# EAGLE library part UC_ATSAMD11D14A-SSUT (library fab2)
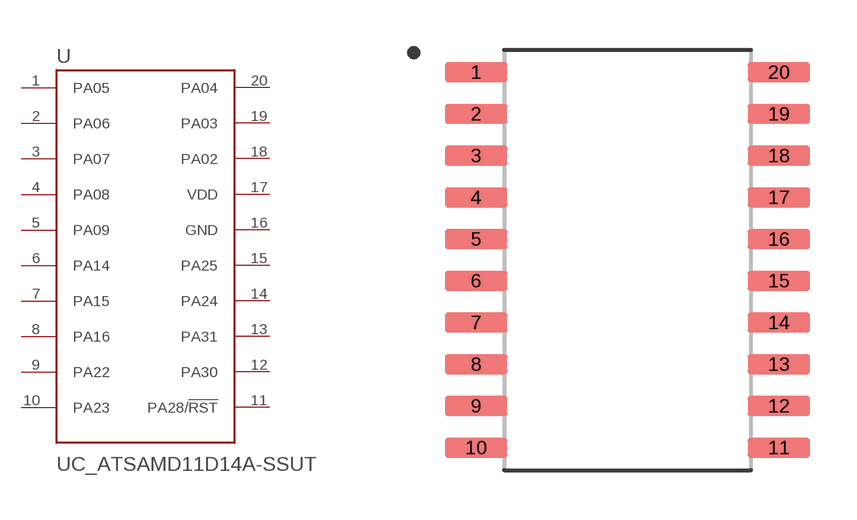
[diagram p27: symbol with the pads of SOIC127P1030X265-20N; footprint SOIC127P1030X265-20N]

Designator prefix -

## UC_ATSAMD11D14A-SSUT  [SOIC127P1030X265-20N]
1  PA05
2  PA06
3  PA07
4  PA08
5  PA09
6  PA14
7  PA15
8  PA16
9  PA22
10  PA23
11  PA28/!RST
12  PA30
13  PA31
14  PA24
15  PA25
16  GND  pwr
17  VDD  pwr
18  PA02
19  PA03
20  PA04

## Footprint SOIC127P1030X265-20N (pad centres in mm)
smd 1.9 x 0.6: 1 -4.605,5.715; 2 -4.605,4.445; 3 -4.605,3.175; 4 -4.605,1.905; 5 -4.605,0.635; 6 -4.605,-0.635; 7 -4.605,-1.905; 8 -4.605,-3.175; 9 -4.605,-4.445; 10 -4.605,-5.715; 11 4.605,-5.715; 12 4.605,-4.445; 13 4.605,-3.175; 14 4.605,-1.905; 15 4.605,-0.635; 16 4.605,0.635; 17 4.605,1.905; 18 4.605,3.175; 19 4.605,4.445; 20 4.605,5.715